# EAGLE library part LTC6254X (library ltc625x)
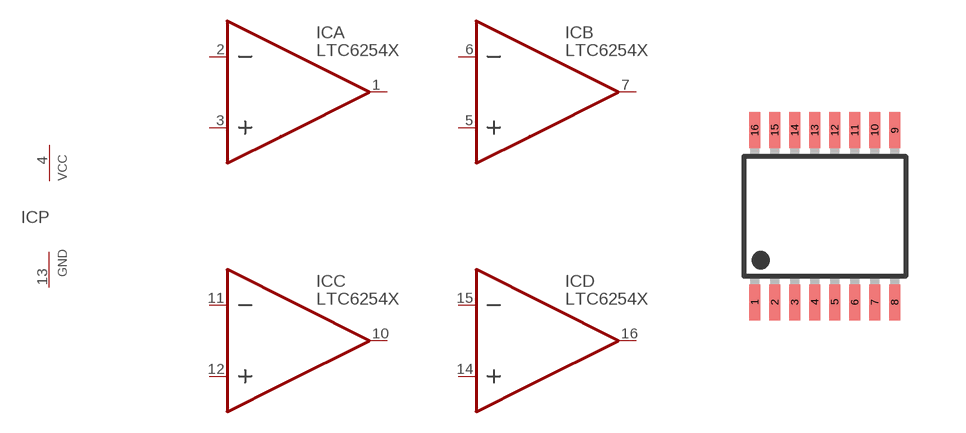
[diagram p1: symbol with the pads of MSOP16; footprint MSOP16]

Designator prefix IC; gates P=POWER A=OPAMP B=OPAMP C=OPAMP D=OPAMP

## LTC6254XMS  [MSOP16]
1  A:OUT  out
2  A:-IN  in
3  A:+IN  in
4  P:V+  pwr
5  B:+IN  in
6  B:-IN  in
7  B:OUT  out
10  C:OUT  out
11  C:-IN  in
12  C:+IN  in
13  P:V-  pwr
14  D:+IN  in
15  D:-IN  in
16  D:OUT  out

## Footprint MSOP16 (pad centres in mm)
smd 0.275 x 0.9: 1 -1.75,-2.15; 2 -1.25,-2.15; 3 -0.75,-2.15; 4 -0.25,-2.15; 5 0.25,-2.15; 6 0.75,-2.15; 7 1.25,-2.15; 8 1.75,-2.15; 9 1.75,2.15; 10 1.25,2.15; 11 0.75,2.15; 12 0.25,2.15; 13 -0.25,2.15; 14 -0.75,2.15; 15 -1.25,2.15; 16 -1.75,2.15